# EAGLE library part MOSFET-N-SO8 (library ads4)
N-Channel MOSFET in SO8 package
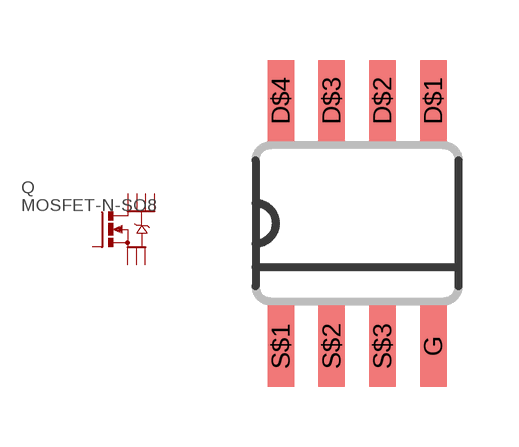
[diagram p14: symbol with the pads of SO8.MOSFETN; footprint SO8.MOSFETN]

Designator prefix Q

## MOSFET-N-SO8  [SO8.MOSFETN]
D$1  D1  pas
D$2  D2  pas
D$3  D3  pas
D$4  D4  pas
G  G  pas
S$1  S1  pas
S$2  S2  pas
S$3  S3  pas

## Footprint SO8.MOSFETN (pad centres in mm)
N-Channel MOSFET with shared pins
smd 0.66 x 2.032: D$1 1.905,3.073; D$2 0.635,3.073; D$3 -0.635,3.073; D$4 -1.905,3.073; G 1.905,-3.073; S$1 -1.905,-3.073; S$2 -0.635,-3.073; S$3 0.635,-3.073